# Altium integrated library TI Data Converters Analog to Digital Converter.IntLib: 2198 symbols (part 88 of 164)
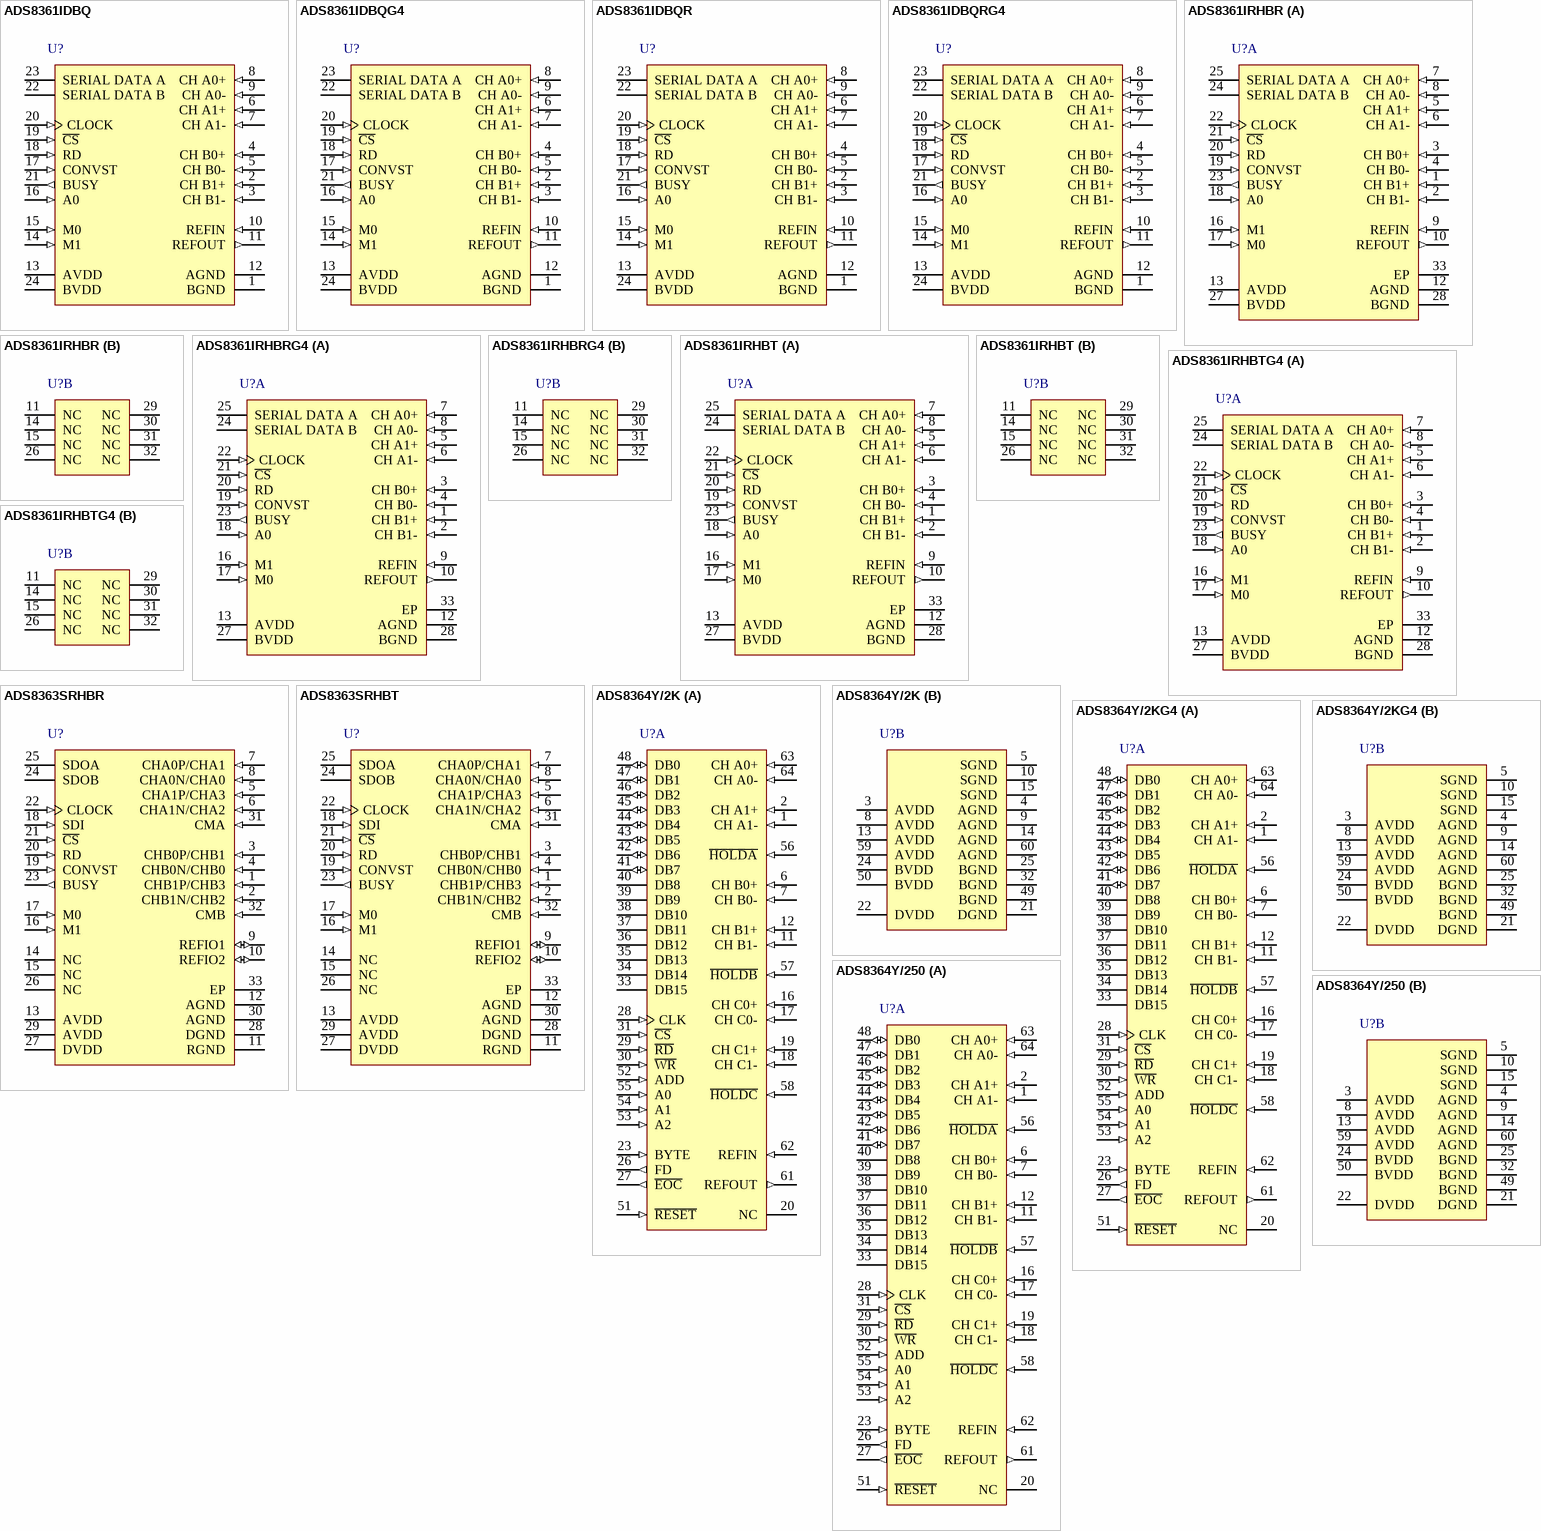
[diagram p213: symbols ADS8361IDBQ to ADS8364Y/250]

## ADS8363SRHBR
designator U?
16-Bit 1 MSPS 4 x 2 / 2 x 2 Simultaneous Sampling SAR ADC, -40 to 125 degC, 32-pin QFN (RHB32), Green (RoHS & no Sb/Br); Manufacturer: Texas Instruments; PartNumber: ADS8363SRHBR; # Input Channels: 4; Analog Voltage AV/DD(Max)(V): 5.5; Analog Voltage AV/DD(Min)(V): 2.7; Digital Supply(Min)(V): 2.3; INL(Max)(+/-LSB): 3; Interface: Serial; Resolution(Bits): 16; Sample Rate (max)(SPS): 1M; SFDR(dB): 100; SINAD(dB): 92; SNR(dB): 93; SubFamily: Precision ADC (<=10MSPS); DatasheetVersion: SBAS523B; PackageVersion: 4204326/D, 06/2011; PackageReference: RHB32-3450X3450TP; PackageDescription: 32-Pin Plastic Flat Pack, Body 5 x 5 mm, Pitch 0.5 mm; Supplier 1: Digi-Key; Supplier Part Number 1: ADS7813U/1KE4-ND; Architecture: SAR; Digital Supply(Max)(V): 5.5; Eco-Plan: Green (RoHS & no Sb/Br); Mounting Technology: Surface Mount; Code_JEDEC: MO-220; ComponentLink1Description: Manufacturer URL; ComponentLink1URL: http://www.ti.com/; ComponentLink2Description: Datasheet; ComponentLink2URL: http://www.ti.com/general/docs/lit/getliterature.tsp?genericPartNumber=ADS8363&fileType=pdf; ComponentLink3Description: Package Specification; ComponentLink3URL: http://www.ti.com/lit/ml/mpqf130c/mpqf130c.pdf
footprint TI-RHB32-3450X3450TP_V (QFN, 32-Leads, Body 5x5mm, Pitch 0.5mm, Thermal Pad 3.45x3.45mm)
pins: 1 CHB1P/CHB3 (in) "Fully-differential noninverting analog input channel B1 or pseudo-differential input B3", 2 CHB1N/CHB2 (in) "Fully-differential inverting analog input channel B1 or pseudo-differential input B2", 3 CHB0P/CHB1 (in) "Fully-differential noninverting analog input channel B0 or pseudo-differential input B1", 4 CHB0N/CHB0 (in) "Fully-differential inverting analog input channel B0 or pseudo-differential input B0", 5 CHA1P/CHA3 (in) "Fully-differential noninverting analog input channel A1 or pseudo-differential input A3", 6 CHA1N/CHA2 (in) "Fully-differential inverting analog input channel A1 or pseudo-differential input A2", 7 CHA0P/CHA1 (in) "Fully-differential nonInverting analog input channel A1 or pseudo-differential input A1", 8 CHA0N/CHA0 (in) "Fully-differential inverting analog input channel A1 or pseudo-differential input A0", 9 REFIO1 (io) "Reference voltage input/output 1. A ceramic capacitor of 22uF connected to RGND is required.", 10 REFIO2 (io) "Reference voltage input/output 2. A ceramic capacitor of 22uF connected to RGND is required.", 11 RGND (power) "Reference ground. Connect to analog ground plane with a dedicated via.", 12 AGND (power) "Analog ground. Connect to analog ground plane.", 13 AVDD (power) "Analog power supply, 2.7V to 5.5V. Decouple to AGND with a 1uF ceramic capacitor.", 14 NC "This pin is not internally connected.", 15 NC "This pin is not internally connected.", 16 M1 (in) "Mode pin 1. Selects the digital output mode (see Table 4).", 17 M0 (in) "Mode pin 0. Selects analog input channel mode (see Table 4).", 18 SDI (in) "Serial data input. This pin is used to set up of the internal registers, and can also be used in ADS8361-compatible manner. The data on SDI are ignored when C\S\is high.", 19 CONVST (in) "Conversion start. The ADC switches from sample into hold mode on the rising edge of CONVST. Thereafter, the conversion starts with the next rising edge of the CLOCK pin.", 20 RD (in) "Read data. Synchronization pulse for the SDOx outputs and SDI input. RD only triggers when C\S\ is low.", 21 ~{CS} (in) "Chip select. When this pin is low, the SDOx, SDI, and RD pins are active; when this pin is high, the SDOx outputs are 3-stated, while the SDI and RD inputs are ignored.", 22 CLOCK (in) "External clock input. The range is 0.5MHz to 20MHz in half-clock mode, or 1MHz to 40MHz in full-clock mode.", 23 BUSY (out) "Converter busy indicator. BUSY goes high when the inputs are in hold mode and returns to low after the conversion is complete.", 24 SDOB (hiz) "Serial data output for converter B. Active only if M1 is low. 3-state when C\S\ is high.", 25 SDOA (hiz) "Serial data output for converter A. 3-state when C\S\ is high.", 26 NC "This pin is not internally connected.", 27 DVDD (power) "Digital supply, 2.3V to 5.5V. Decouple to DGND with a 1uF ceramic capacitor.", 28 DGND (power) "Digital ground. Connect to digital ground plane.", 29 AVDD (power) "Analog power supply, 2.7V to 5.5V. Decouple to AGND with a 1uF ceramic capacitor.", 30 AGND (power) "Analog ground. Connect to analog ground plane.", 31 CMA (in) "Common-mode voltage input for channels Ax (in pseudo-differential mode only).", 32 CMB (in) "Common-mode voltage input for channels Bx (in pseudo-differential mode only).", 33 EP

## ADS8363SRHBT
designator U?
16-Bit 1 MSPS 4 x 2 / 2 x 2 Simultaneous Sampling SAR ADC, -40 to 125 degC, 32-pin QFN (RHB32), Green (RoHS & no Sb/Br); Manufacturer: Texas Instruments; PartNumber: ADS8363SRHBT; # Input Channels: 4; Analog Voltage AV/DD(Max)(V): 5.5; Analog Voltage AV/DD(Min)(V): 2.7; Digital Supply(Min)(V): 2.3; INL(Max)(+/-LSB): 3; Interface: Serial; Resolution(Bits): 16; Sample Rate (max)(SPS): 1M; SFDR(dB): 100; SINAD(dB): 92; SNR(dB): 93; SubFamily: Precision ADC (<=10MSPS); DatasheetVersion: SBAS523B; PackageVersion: 4204326/D, 06/2011; PackageReference: RHB32-3450X3450TP; PackageDescription: 32-Pin Plastic Flat Pack, Body 5 x 5 mm, Pitch 0.5 mm; Supplier 1: Digi-Key; Supplier Part Number 1: ADS7813U/1KG4-ND; Architecture: SAR; Digital Supply(Max)(V): 5.5; Eco-Plan: Green (RoHS & no Sb/Br); Mounting Technology: Surface Mount; Code_JEDEC: MO-220; ComponentLink1Description: Manufacturer URL; ComponentLink1URL: http://www.ti.com/; ComponentLink2Description: Datasheet; ComponentLink2URL: http://www.ti.com/general/docs/lit/getliterature.tsp?genericPartNumber=ADS8363&fileType=pdf; ComponentLink3Description: Package Specification; ComponentLink3URL: http://www.ti.com/lit/ml/mpqf130c/mpqf130c.pdf
footprint TI-RHB32-3450X3450TP_V (QFN, 32-Leads, Body 5x5mm, Pitch 0.5mm, Thermal Pad 3.45x3.45mm)
pins: 1 CHB1P/CHB3 (in) "Fully-differential noninverting analog input channel B1 or pseudo-differential input B3", 2 CHB1N/CHB2 (in) "Fully-differential inverting analog input channel B1 or pseudo-differential input B2", 3 CHB0P/CHB1 (in) "Fully-differential noninverting analog input channel B0 or pseudo-differential input B1", 4 CHB0N/CHB0 (in) "Fully-differential inverting analog input channel B0 or pseudo-differential input B0", 5 CHA1P/CHA3 (in) "Fully-differential noninverting analog input channel A1 or pseudo-differential input A3", 6 CHA1N/CHA2 (in) "Fully-differential inverting analog input channel A1 or pseudo-differential input A2", 7 CHA0P/CHA1 (in) "Fully-differential nonInverting analog input channel A1 or pseudo-differential input A1", 8 CHA0N/CHA0 (in) "Fully-differential inverting analog input channel A1 or pseudo-differential input A0", 9 REFIO1 (io) "Reference voltage input/output 1. A ceramic capacitor of 22uF connected to RGND is required.", 10 REFIO2 (io) "Reference voltage input/output 2. A ceramic capacitor of 22uF connected to RGND is required.", 11 RGND (power) "Reference ground. Connect to analog ground plane with a dedicated via.", 12 AGND (power) "Analog ground. Connect to analog ground plane.", 13 AVDD (power) "Analog power supply, 2.7V to 5.5V. Decouple to AGND with a 1uF ceramic capacitor.", 14 NC "This pin is not internally connected.", 15 NC "This pin is not internally connected.", 16 M1 (in) "Mode pin 1. Selects the digital output mode (see Table 4).", 17 M0 (in) "Mode pin 0. Selects analog input channel mode (see Table 4).", 18 SDI (in) "Serial data input. This pin is used to set up of the internal registers, and can also be used in ADS8361-compatible manner. The data on SDI are ignored when C\S\is high.", 19 CONVST (in) "Conversion start. The ADC switches from sample into hold mode on the rising edge of CONVST. Thereafter, the conversion starts with the next rising edge of the CLOCK pin.", 20 RD (in) "Read data. Synchronization pulse for the SDOx outputs and SDI input. RD only triggers when C\S\ is low.", 21 ~{CS} (in) "Chip select. When this pin is low, the SDOx, SDI, and RD pins are active; when this pin is high, the SDOx outputs are 3-stated, while the SDI and RD inputs are ignored.", 22 CLOCK (in) "External clock input. The range is 0.5MHz to 20MHz in half-clock mode, or 1MHz to 40MHz in full-clock mode.", 23 BUSY (out) "Converter busy indicator. BUSY goes high when the inputs are in hold mode and returns to low after the conversion is complete.", 24 SDOB (hiz) "Serial data output for converter B. Active only if M1 is low. 3-state when C\S\ is high.", 25 SDOA (hiz) "Serial data output for converter A. 3-state when C\S\ is high.", 26 NC "This pin is not internally connected.", 27 DVDD (power) "Digital supply, 2.3V to 5.5V. Decouple to DGND with a 1uF ceramic capacitor.", 28 DGND (power) "Digital ground. Connect to digital ground plane.", 29 AVDD (power) "Analog power supply, 2.7V to 5.5V. Decouple to AGND with a 1uF ceramic capacitor.", 30 AGND (power) "Analog ground. Connect to analog ground plane.", 31 CMA (in) "Common-mode voltage input for channels Ax (in pseudo-differential mode only).", 32 CMB (in) "Common-mode voltage input for channels Bx (in pseudo-differential mode only).", 33 EP

## ADS8364Y/2K
designator U?
16-Bit 250 kSPS ADC, Parallel Out, with 6 x FIFO, 6 Channel, -40 to 85 degC, 64-pin QFP (PAG64), Green (RoHS & no Sb/Br); Manufacturer: Texas Instruments; PartNumber: ADS8364Y/2K; # Input Channels: 6; Analog Voltage AV/DD(Max)(V): 5.25; Analog Voltage AV/DD(Min)(V): 4.75; Architecture: SAR; ENOB(Bits): 13.3; INL(Max)(+/-LSB): 8; Interface: Parallel CMOS; Resolution(Bits): 16; Sample Rate (max)(SPS): 250k; SFDR(dB): 93.5; SINAD(dB): 82.5; SNR(dB): 83.2; SubFamily: Precision ADC (<=10MSPS); DatasheetVersion: SBAS219C; PackageVersion: 4040282/C, 11/1996; PackageReference: PAG64; PackageDescription: 64-Pin Plastic Flat Pack, Body 10 x 10 mm, Pitch 0.50 mm; Supplier 1: Digi-Key; Supplier Part Number 1: ADS7813UB-ND; Digital Supply(Max)(V): 5.25; Digital Supply(Min)(V): 4.75; Eco-Plan: Green (RoHS & no Sb/Br); Mounting Technology: Surface Mount; Code_JEDEC: MS-026; ComponentLink1Description: Manufacturer URL; ComponentLink1URL: http://www.ti.com/; ComponentLink2Description: Datasheet; ComponentLink2URL: http://www.ti.com/general/docs/lit/getliterature.tsp?genericPartNumber=ADS8364&fileType=pdf; ComponentLink3Description: Package Specification; ComponentLink3URL: http://www.ti.com/lit/ml/mtqf006a/mtqf006a.pdf
footprint TI-PAG64_N (QFP, 64-Leads, Body 10x10mm, Pitch 0.5mm, IPC Medium Density)
footprint TI-PAG64_L (QFP, 64-Leads, Body 10x10mm, Pitch 0.5mm, IPC High Density)
footprint TI-PAG64_M (QFP, 64-Leads, Body 10x10mm, Pitch 0.5mm, IPC Low Density)
part A pins: 1 CH A1- (in) "Inverting Input Channel A1", 2 CH A1+ (in) "Noninverting Input channel A1", 6 CH B0+ (in) "Noninverting Input Channel B0", 7 CH B0- (in) "Inverting Input Channel B0", 11 CH B1- (in) "Inverting Input Channel B1", 12 CH B1+ (in) "Noninverting Input Channel B1", 16 CH C0+ (in) "Noninverting Input Channel C0", 17 CH C0- (in) "Inverting Input Channel C0", 18 CH C1- (in) "Inverting Input Channel C1", 19 CH C1+ (in) "Noninverting Input Channel C1", 20 NC "No Connection", 23 BYTE (in) "2 x 8 Output Capability. Active HIGH.", 26 FD (out) "First Data, A0 Data", 27 ~{EOC} (out) "End of Conversion, Active LOW", 28 CLK (in) "An external CMOS compatible clock can be applied to the CLK input to synchronize the conversion process to an external source.", 29 ~{RD} (in) "Read, Active LOW", 30 ~{WR} (in) "Write, Active LOW", 31 ~{CS} (in) "Chip Select, Active LOW", 33 DB15 (hiz) "Data Bit 15-MSB", 34 DB14 (hiz) "Data Bit 14", 35 DB13 (hiz) "Data Bit 13", 36 DB12 (hiz) "Data Bit 12", 37 DB11 (hiz) "Data Bit 11", 38 DB10 (hiz) "Data Bit 10", 39 DB9 (hiz) "Data Bit 9", 40 DB8 (hiz) "Data Bit 8", 41 DB7 (io) "Data Bit 7, Software Input 7", 42 DB6 (io) "Data Bit 6, Software Input 6", 43 DB5 (io) "Data Bit 5, Software Input 5", 44 DB4 (io) "Data Bit 4, Software Input 4", 45 DB3 (io) "Data Bit 3, Software Input 3", 46 DB2 (io) "Data Bit 2, Software Input 2", 47 DB1 (io) "Data Bit 1, Software Input 1", 48 DB0 (io) "Data Bit 0, Software Input 0", 51 ~{RESET} (in) "Global Reset, Active LOW", 52 ADD (in) "Address Mode Select", 53 A2 (in) "Address Line 3", 54 A1 (in) "Address Line 2", 55 A0 (in) "Address Line 1", 56 ~{HOLDA} (in) "Hold Command A", 57 ~{HOLDB} (in) "Hold Command B", 58 ~{HOLDC} (in) "Hold Command C", 61 REFOUT (out) "Reference Output, attach 0.1uF and 10uF capacitors.", 62 REFIN (in) "Reference Input", 63 CH A0+ (in) "Noninverting Input Channel A0", 64 CH A0- (in) "Inverting Input Channel A0"
part B pins: 3 AVDD (power) "Analog Power Supply", 4 AGND (power) "Analog Ground", 5 SGND (power) "Signal Ground", 8 AVDD (power) "Analog Power Supply", 9 AGND (power) "Analog Ground", 10 SGND (power) "Signal Ground", 13 AVDD (power) "Analog Power Supply", 14 AGND (power) "Analog Ground", 15 SGND (power) "Signal Ground", 21 DGND (power) "Digital ground connected to AGND.", 22 DVDD (power) "+5V Power Supply for Digital Logic Connected to AVDD.", 24 BVDD (power) "Power supply for digital interface from 3V to 5V.", 25 BGND (power) "Buffer Digital Ground", 32 BGND (power) "Buffer Digital Ground", 49 BGND (power) "Buffer Digital Ground", 50 BVDD (power) "Power Supply for Digital Interface from 3V to 5V", 59 AVDD (power) "Analog Power Supply", 60 AGND (power) "Analog Ground"

## ADS8364Y/2KG4
designator U?
16-Bit 250 kSPS ADC, Parallel Out, with 6 x FIFO, 6 Channel, -40 to 85 degC, 64-pin QFP (PAG64), Green (RoHS & no Sb/Br); Manufacturer: Texas Instruments; PartNumber: ADS8364Y/2KG4; # Input Channels: 6; Analog Voltage AV/DD(Max)(V): 5.25; Analog Voltage AV/DD(Min)(V): 4.75; Architecture: SAR; ENOB(Bits): 13.3; INL(Max)(+/-LSB): 8; Interface: Parallel CMOS; Resolution(Bits): 16; Sample Rate (max)(SPS): 250k; SFDR(dB): 93.5; SINAD(dB): 82.5; SNR(dB): 83.2; SubFamily: Precision ADC (<=10MSPS); DatasheetVersion: SBAS219C; PackageVersion: 4040282/C, 11/1996; PackageReference: PAG64; PackageDescription: 64-Pin Plastic Flat Pack, Body 10 x 10 mm, Pitch 0.50 mm; Supplier 1: Digi-Key; Supplier Part Number 1: ADS7813UB/1K-ND; Digital Supply(Max)(V): 5.25; Digital Supply(Min)(V): 4.75; Eco-Plan: Green (RoHS & no Sb/Br); Mounting Technology: Surface Mount; Code_JEDEC: MS-026; ComponentLink1Description: Manufacturer URL; ComponentLink1URL: http://www.ti.com/; ComponentLink2Description: Datasheet; ComponentLink2URL: http://www.ti.com/general/docs/lit/getliterature.tsp?genericPartNumber=ADS8364&fileType=pdf; ComponentLink3Description: Package Specification; ComponentLink3URL: http://www.ti.com/lit/ml/mtqf006a/mtqf006a.pdf
footprint TI-PAG64_N (QFP, 64-Leads, Body 10x10mm, Pitch 0.5mm, IPC Medium Density)
footprint TI-PAG64_L (QFP, 64-Leads, Body 10x10mm, Pitch 0.5mm, IPC High Density)
footprint TI-PAG64_M (QFP, 64-Leads, Body 10x10mm, Pitch 0.5mm, IPC Low Density)
part A pins: 1 CH A1- (in) "Inverting Input Channel A1", 2 CH A1+ (in) "Noninverting Input channel A1", 6 CH B0+ (in) "Noninverting Input Channel B0", 7 CH B0- (in) "Inverting Input Channel B0", 11 CH B1- (in) "Inverting Input Channel B1", 12 CH B1+ (in) "Noninverting Input Channel B1", 16 CH C0+ (in) "Noninverting Input Channel C0", 17 CH C0- (in) "Inverting Input Channel C0", 18 CH C1- (in) "Inverting Input Channel C1", 19 CH C1+ (in) "Noninverting Input Channel C1", 20 NC "No Connection", 23 BYTE (in) "2 x 8 Output Capability. Active HIGH.", 26 FD (out) "First Data, A0 Data", 27 ~{EOC} (out) "End of Conversion, Active LOW", 28 CLK (in) "An external CMOS compatible clock can be applied to the CLK input to synchronize the conversion process to an external source.", 29 ~{RD} (in) "Read, Active LOW", 30 ~{WR} (in) "Write, Active LOW", 31 ~{CS} (in) "Chip Select, Active LOW", 33 DB15 (hiz) "Data Bit 15-MSB", 34 DB14 (hiz) "Data Bit 14", 35 DB13 (hiz) "Data Bit 13", 36 DB12 (hiz) "Data Bit 12", 37 DB11 (hiz) "Data Bit 11", 38 DB10 (hiz) "Data Bit 10", 39 DB9 (hiz) "Data Bit 9", 40 DB8 (hiz) "Data Bit 8", 41 DB7 (io) "Data Bit 7, Software Input 7", 42 DB6 (io) "Data Bit 6, Software Input 6", 43 DB5 (io) "Data Bit 5, Software Input 5", 44 DB4 (io) "Data Bit 4, Software Input 4", 45 DB3 (io) "Data Bit 3, Software Input 3", 46 DB2 (io) "Data Bit 2, Software Input 2", 47 DB1 (io) "Data Bit 1, Software Input 1", 48 DB0 (io) "Data Bit 0, Software Input 0", 51 ~{RESET} (in) "Global Reset, Active LOW", 52 ADD (in) "Address Mode Select", 53 A2 (in) "Address Line 3", 54 A1 (in) "Address Line 2", 55 A0 (in) "Address Line 1", 56 ~{HOLDA} (in) "Hold Command A", 57 ~{HOLDB} (in) "Hold Command B", 58 ~{HOLDC} (in) "Hold Command C", 61 REFOUT (out) "Reference Output, attach 0.1uF and 10uF capacitors.", 62 REFIN (in) "Reference Input", 63 CH A0+ (in) "Noninverting Input Channel A0", 64 CH A0- (in) "Inverting Input Channel A0"
part B pins: 3 AVDD (power) "Analog Power Supply", 4 AGND (power) "Analog Ground", 5 SGND (power) "Signal Ground", 8 AVDD (power) "Analog Power Supply", 9 AGND (power) "Analog Ground", 10 SGND (power) "Signal Ground", 13 AVDD (power) "Analog Power Supply", 14 AGND (power) "Analog Ground", 15 SGND (power) "Signal Ground", 21 DGND (power) "Digital ground connected to AGND.", 22 DVDD (power) "+5V Power Supply for Digital Logic Connected to AVDD.", 24 BVDD (power) "Power supply for digital interface from 3V to 5V.", 25 BGND (power) "Buffer Digital Ground", 32 BGND (power) "Buffer Digital Ground", 49 BGND (power) "Buffer Digital Ground", 50 BVDD (power) "Power Supply for Digital Interface from 3V to 5V", 59 AVDD (power) "Analog Power Supply", 60 AGND (power) "Analog Ground"

## ADS8364Y/250
designator U?
16-Bit 250 kSPS ADC, Parallel Out, with 6 x FIFO, 6 Channel, -40 to 85 degC, 64-pin QFP (PAG64), Green (RoHS & no Sb/Br); Manufacturer: Texas Instruments; PartNumber: ADS8364Y/250; # Input Channels: 6; Analog Voltage AV/DD(Max)(V): 5.25; Analog Voltage AV/DD(Min)(V): 4.75; Architecture: SAR; ENOB(Bits): 13.3; INL(Max)(+/-LSB): 8; Interface: Parallel CMOS; Resolution(Bits): 16; Sample Rate (max)(SPS): 250k; SFDR(dB): 93.5; SINAD(dB): 82.5; SNR(dB): 83.2; SubFamily: Precision ADC (<=10MSPS); DatasheetVersion: SBAS219C; PackageVersion: 4040282/C, 11/1996; PackageReference: PAG64; PackageDescription: 64-Pin Plastic Flat Pack, Body 10 x 10 mm, Pitch 0.50 mm; Supplier 1: Digi-Key; Supplier Part Number 1: ADS7813UB/1KG4-ND; Digital Supply(Max)(V): 5.25; Digital Supply(Min)(V): 4.75; Eco-Plan: Green (RoHS & no Sb/Br); Mounting Technology: Surface Mount; Code_JEDEC: MS-026; ComponentLink1Description: Manufacturer URL; ComponentLink1URL: http://www.ti.com/; ComponentLink2Description: Datasheet; ComponentLink2URL: http://www.ti.com/general/docs/lit/getliterature.tsp?genericPartNumber=ADS8364&fileType=pdf; ComponentLink3Description: Package Specification; ComponentLink3URL: http://www.ti.com/lit/ml/mtqf006a/mtqf006a.pdf
footprint TI-PAG64_N (QFP, 64-Leads, Body 10x10mm, Pitch 0.5mm, IPC Medium Density)
footprint TI-PAG64_L (QFP, 64-Leads, Body 10x10mm, Pitch 0.5mm, IPC High Density)
footprint TI-PAG64_M (QFP, 64-Leads, Body 10x10mm, Pitch 0.5mm, IPC Low Density)
part A pins: 1 CH A1- (in) "Inverting Input Channel A1", 2 CH A1+ (in) "Noninverting Input channel A1", 6 CH B0+ (in) "Noninverting Input Channel B0", 7 CH B0- (in) "Inverting Input Channel B0", 11 CH B1- (in) "Inverting Input Channel B1", 12 CH B1+ (in) "Noninverting Input Channel B1", 16 CH C0+ (in) "Noninverting Input Channel C0", 17 CH C0- (in) "Inverting Input Channel C0", 18 CH C1- (in) "Inverting Input Channel C1", 19 CH C1+ (in) "Noninverting Input Channel C1", 20 NC "No Connection", 23 BYTE (in) "2 x 8 Output Capability. Active HIGH.", 26 FD (out) "First Data, A0 Data", 27 ~{EOC} (out) "End of Conversion, Active LOW", 28 CLK (in) "An external CMOS compatible clock can be applied to the CLK input to synchronize the conversion process to an external source.", 29 ~{RD} (in) "Read, Active LOW", 30 ~{WR} (in) "Write, Active LOW", 31 ~{CS} (in) "Chip Select, Active LOW", 33 DB15 (hiz) "Data Bit 15-MSB", 34 DB14 (hiz) "Data Bit 14", 35 DB13 (hiz) "Data Bit 13", 36 DB12 (hiz) "Data Bit 12", 37 DB11 (hiz) "Data Bit 11", 38 DB10 (hiz) "Data Bit 10", 39 DB9 (hiz) "Data Bit 9", 40 DB8 (hiz) "Data Bit 8", 41 DB7 (io) "Data Bit 7, Software Input 7", 42 DB6 (io) "Data Bit 6, Software Input 6", 43 DB5 (io) "Data Bit 5, Software Input 5", 44 DB4 (io) "Data Bit 4, Software Input 4", 45 DB3 (io) "Data Bit 3, Software Input 3", 46 DB2 (io) "Data Bit 2, Software Input 2", 47 DB1 (io) "Data Bit 1, Software Input 1", 48 DB0 (io) "Data Bit 0, Software Input 0", 51 ~{RESET} (in) "Global Reset, Active LOW", 52 ADD (in) "Address Mode Select", 53 A2 (in) "Address Line 3", 54 A1 (in) "Address Line 2", 55 A0 (in) "Address Line 1", 56 ~{HOLDA} (in) "Hold Command A", 57 ~{HOLDB} (in) "Hold Command B", 58 ~{HOLDC} (in) "Hold Command C", 61 REFOUT (out) "Reference Output, attach 0.1uF and 10uF capacitors.", 62 REFIN (in) "Reference Input", 63 CH A0+ (in) "Noninverting Input Channel A0", 64 CH A0- (in) "Inverting Input Channel A0"
part B pins: 3 AVDD (power) "Analog Power Supply", 4 AGND (power) "Analog Ground", 5 SGND (power) "Signal Ground", 8 AVDD (power) "Analog Power Supply", 9 AGND (power) "Analog Ground", 10 SGND (power) "Signal Ground", 13 AVDD (power) "Analog Power Supply", 14 AGND (power) "Analog Ground", 15 SGND (power) "Signal Ground", 21 DGND (power) "Digital ground connected to AGND.", 22 DVDD (power) "+5V Power Supply for Digital Logic Connected to AVDD.", 24 BVDD (power) "Power supply for digital interface from 3V to 5V.", 25 BGND (power) "Buffer Digital Ground", 32 BGND (power) "Buffer Digital Ground", 49 BGND (power) "Buffer Digital Ground", 50 BVDD (power) "Power Supply for Digital Interface from 3V to 5V", 59 AVDD (power) "Analog Power Supply", 60 AGND (power) "Analog Ground"

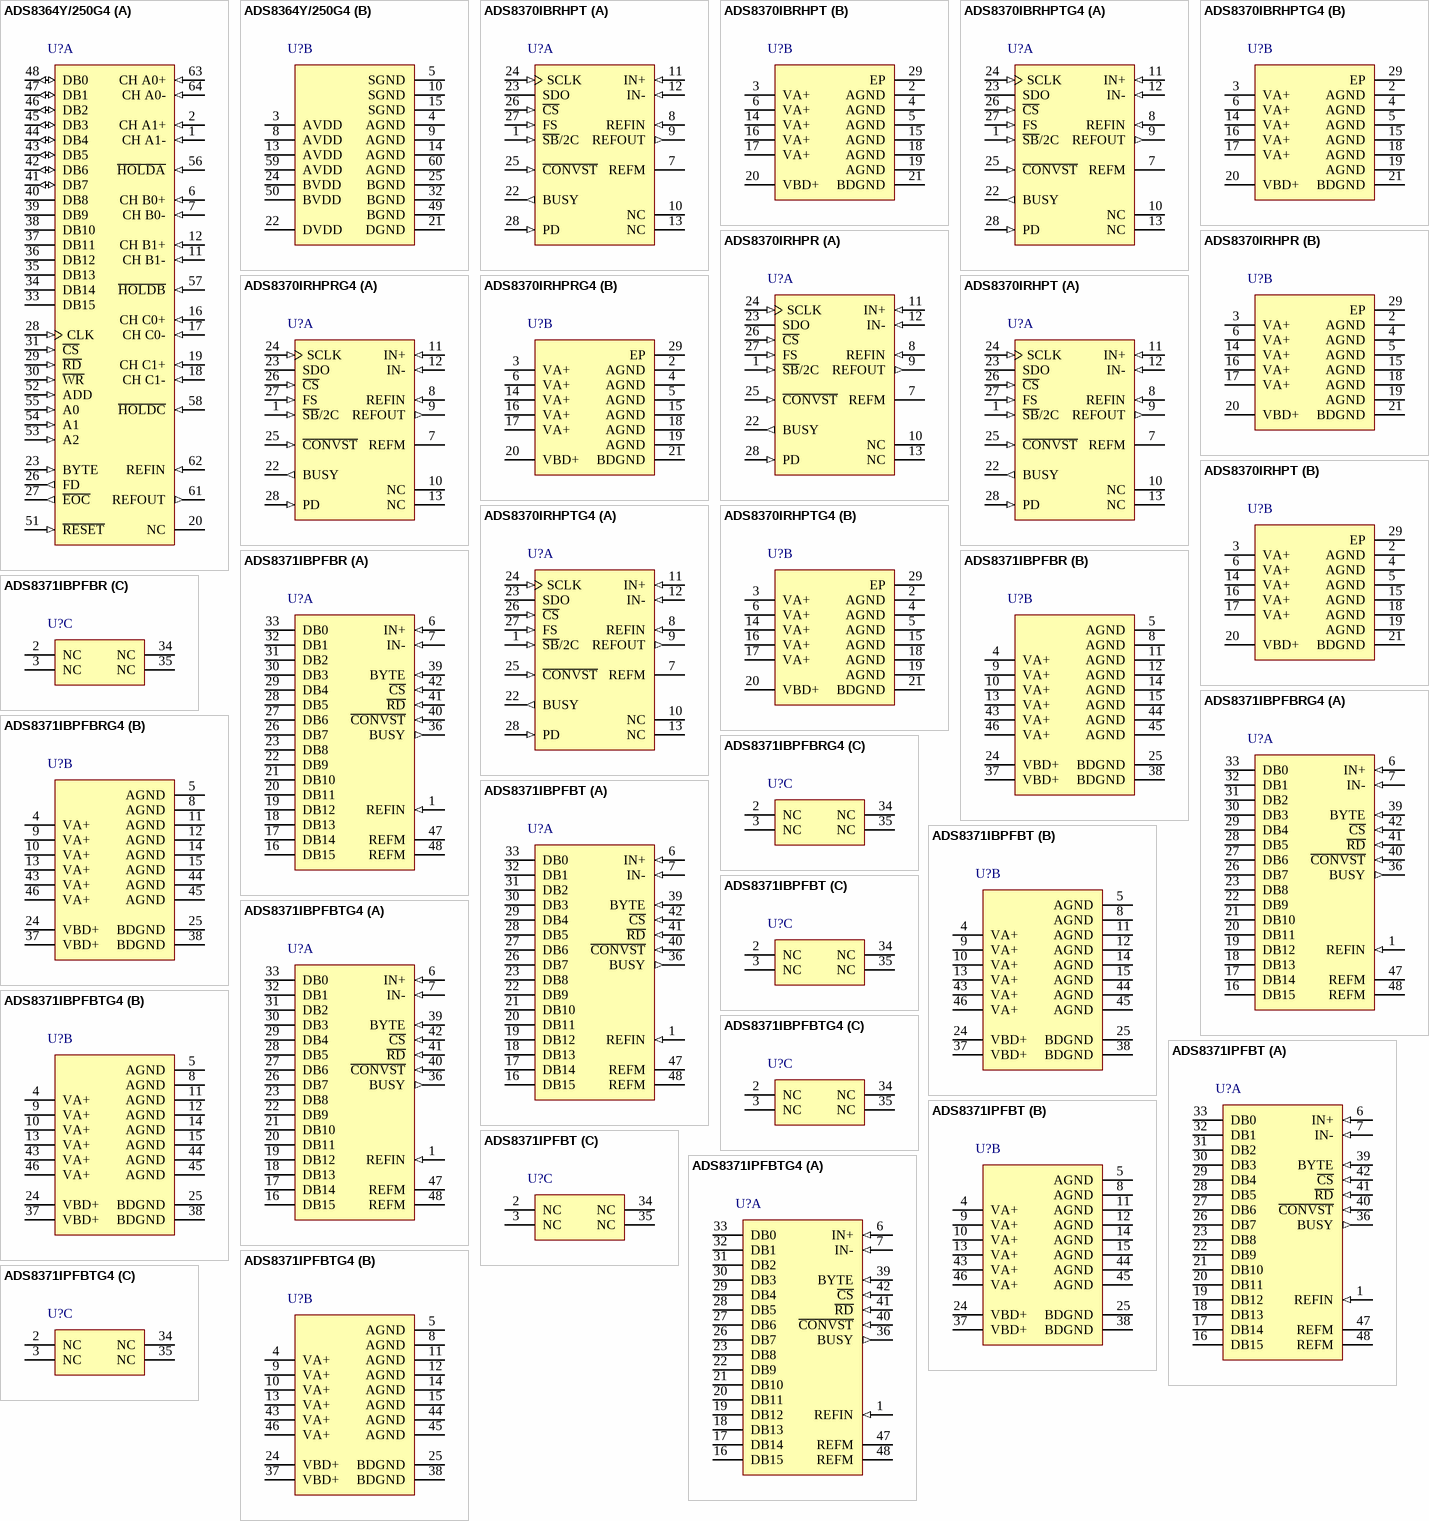
[diagram p78: symbols ADS8364Y/250G4 to ADS8371IPFBTG4]

## ADS8364Y/250G4
designator U?
16-Bit 250 kSPS ADC, Parallel Out, with 6 x FIFO, 6 Channel, -40 to 85 degC, 64-pin QFP (PAG64), Green (RoHS & no Sb/Br); Manufacturer: Texas Instruments; PartNumber: ADS8364Y/250G4; # Input Channels: 6; Analog Voltage AV/DD(Max)(V): 5.25; Analog Voltage AV/DD(Min)(V): 4.75; Architecture: SAR; ENOB(Bits): 13.3; INL(Max)(+/-LSB): 8; Interface: Parallel CMOS; Resolution(Bits): 16; Sample Rate (max)(SPS): 250k; SFDR(dB): 93.5; SINAD(dB): 82.5; SNR(dB): 83.2; SubFamily: Precision ADC (<=10MSPS); DatasheetVersion: SBAS219C; PackageVersion: 4040282/C, 11/1996; PackageReference: PAG64; PackageDescription: 64-Pin Plastic Flat Pack, Body 10 x 10 mm, Pitch 0.50 mm; Supplier 1: Digi-Key; Supplier Part Number 1: ADS7813UBE4-ND; Digital Supply(Max)(V): 5.25; Digital Supply(Min)(V): 4.75; Eco-Plan: Green (RoHS & no Sb/Br); Mounting Technology: Surface Mount; Code_JEDEC: MS-026; ComponentLink1Description: Manufacturer URL; ComponentLink1URL: http://www.ti.com/; ComponentLink2Description: Datasheet; ComponentLink2URL: http://www.ti.com/general/docs/lit/getliterature.tsp?genericPartNumber=ADS8364&fileType=pdf; ComponentLink3Description: Package Specification; ComponentLink3URL: http://www.ti.com/lit/ml/mtqf006a/mtqf006a.pdf
footprint TI-PAG64_N (QFP, 64-Leads, Body 10x10mm, Pitch 0.5mm, IPC Medium Density)
footprint TI-PAG64_L (QFP, 64-Leads, Body 10x10mm, Pitch 0.5mm, IPC High Density)
footprint TI-PAG64_M (QFP, 64-Leads, Body 10x10mm, Pitch 0.5mm, IPC Low Density)
part A pins: 1 CH A1- (in) "Inverting Input Channel A1", 2 CH A1+ (in) "Noninverting Input channel A1", 6 CH B0+ (in) "Noninverting Input Channel B0", 7 CH B0- (in) "Inverting Input Channel B0", 11 CH B1- (in) "Inverting Input Channel B1", 12 CH B1+ (in) "Noninverting Input Channel B1", 16 CH C0+ (in) "Noninverting Input Channel C0", 17 CH C0- (in) "Inverting Input Channel C0", 18 CH C1- (in) "Inverting Input Channel C1", 19 CH C1+ (in) "Noninverting Input Channel C1", 20 NC "No Connection", 23 BYTE (in) "2 x 8 Output Capability. Active HIGH.", 26 FD (out) "First Data, A0 Data", 27 ~{EOC} (out) "End of Conversion, Active LOW", 28 CLK (in) "An external CMOS compatible clock can be applied to the CLK input to synchronize the conversion process to an external source.", 29 ~{RD} (in) "Read, Active LOW", 30 ~{WR} (in) "Write, Active LOW", 31 ~{CS} (in) "Chip Select, Active LOW", 33 DB15 (hiz) "Data Bit 15-MSB", 34 DB14 (hiz) "Data Bit 14", 35 DB13 (hiz) "Data Bit 13", 36 DB12 (hiz) "Data Bit 12", 37 DB11 (hiz) "Data Bit 11", 38 DB10 (hiz) "Data Bit 10", 39 DB9 (hiz) "Data Bit 9", 40 DB8 (hiz) "Data Bit 8", 41 DB7 (io) "Data Bit 7, Software Input 7", 42 DB6 (io) "Data Bit 6, Software Input 6", 43 DB5 (io) "Data Bit 5, Software Input 5", 44 DB4 (io) "Data Bit 4, Software Input 4", 45 DB3 (io) "Data Bit 3, Software Input 3", 46 DB2 (io) "Data Bit 2, Software Input 2", 47 DB1 (io) "Data Bit 1, Software Input 1", 48 DB0 (io) "Data Bit 0, Software Input 0", 51 ~{RESET} (in) "Global Reset, Active LOW", 52 ADD (in) "Address Mode Select", 53 A2 (in) "Address Line 3", 54 A1 (in) "Address Line 2", 55 A0 (in) "Address Line 1", 56 ~{HOLDA} (in) "Hold Command A", 57 ~{HOLDB} (in) "Hold Command B", 58 ~{HOLDC} (in) "Hold Command C", 61 REFOUT (out) "Reference Output, attach 0.1uF and 10uF capacitors.", 62 REFIN (in) "Reference Input", 63 CH A0+ (in) "Noninverting Input Channel A0", 64 CH A0- (in) "Inverting Input Channel A0"
part B pins: 3 AVDD (power) "Analog Power Supply", 4 AGND (power) "Analog Ground", 5 SGND (power) "Signal Ground", 8 AVDD (power) "Analog Power Supply", 9 AGND (power) "Analog Ground", 10 SGND (power) "Signal Ground", 13 AVDD (power) "Analog Power Supply", 14 AGND (power) "Analog Ground", 15 SGND (power) "Signal Ground", 21 DGND (power) "Digital ground connected to AGND.", 22 DVDD (power) "+5V Power Supply for Digital Logic Connected to AVDD.", 24 BVDD (power) "Power supply for digital interface from 3V to 5V.", 25 BGND (power) "Buffer Digital Ground", 32 BGND (power) "Buffer Digital Ground", 49 BGND (power) "Buffer Digital Ground", 50 BVDD (power) "Power Supply for Digital Interface from 3V to 5V", 59 AVDD (power) "Analog Power Supply", 60 AGND (power) "Analog Ground"

## ADS8370IBRHPT
designator U?
16-Bit 600 kSPS Serial ADC with Reference and Unipolar Pseudo Differential Input, -40 to 85 degC, 28-pin QFN (RHP28), Green (RoHS & no Sb/Br); Manufacturer: Texas Instruments; PartNumber: ADS8370IBRHPT; # Input Channels: 1; Analog Voltage AV/DD(Max)(V): 5.25; Analog Voltage AV/DD(Min)(V): 4.75; Architecture: SAR; Digital Supply(Min)(V): 2.7; INL(Max)(+/-LSB): 1.25; Resolution(Bits): 16; Sample Rate (max)(SPS): 600k; SFDR(dB): 119; SINAD(dB): 89.5; SubFamily: Precision ADC (<=10MSPS); DatasheetVersion: SLAS450; PackageVersion: 4205387/C, 01/2011; PackageReference: RHP28-4450X4450TP; PackageDescription: 28-Lead, Plastic Flat Pack, Body Size 6 x 6 mm, Pitch 0.65 mm; Supplier 1: Digi-Key; Supplier Part Number 1: ADS7813UBG4-ND; Digital Supply(Max)(V): 5.25; Eco-Plan: Green (RoHS & no Sb/Br); Interface: Serial; SNR(dB): 89.5; Mounting Technology: Surface Mount; ComponentLink1Description: Manufacturer URL; ComponentLink1URL: http://www.ti.com/; ComponentLink2Description: Datasheet; ComponentLink2URL: http://www.ti.com/general/docs/lit/getliterature.tsp?genericPartNumber=ADS8370&fileType=pdf; ComponentLink3Description: Package Specification; ComponentLink3URL: http://www.ti.com/litv/pdf/mpqf154b
footprint TI-RHP28-4450X4450TP_V (QFN, 28-Leads, Body 6x6mm, Pitch 0.65mm, Thermal Pad 4.45x4.45mm)
part A pins: 1 ~{SB}/2C (in), 7 REFM (power) "Reference ground. To be connected to analog ground plane.", 8 REFIN (in) "Reference (positive) input. REFIN must be decoupled with REFM pin using 0.1-uF bypass capacitor and 1-uF storage capacitor.", 9 REFOUT (out) "Internal reference output. Shorted to REFIN pin only when internal reference is used.", 10 NC "No connection", 11 IN+ (in) "Noninverting analog input channel", 12 IN- (in) "Inverting analog input channel", 13 NC "No connection", 22 BUSY (out) "Status output. This pin is high when conversion is in progress.", 23 SDO (hiz) "Serial data out. All bits except MSB are shifted out at the rising edge of SCLK.", 24 SCLK (in) "Serial clock. Data is shifted onto SDO with the rising edge of this clock. This signal is qualified with CS internally.", 25 ~{CONVST} (in) "Convert start. This signal is qualified with C\S\ internally.", 26 ~{CS} (in) "Chip select", 27 FS (in) "Frame sync. This signal is qualified with C\S\ internally.", 28 PD (in) "Power down. Device resets and powers down when this signal is high."
part B pins: 2 AGND (power) "Analog ground pins. AGND must be shorted to analog ground plane below the device.", 3 VA+ (power) "Analog power supplies", 4 AGND (power) "Analog ground pins. AGND must be shorted to analog ground plane below the device.", 5 AGND (power) "Analog ground pins. AGND must be shorted to analog ground plane below the device.", 6 VA+ (power) "Analog power supplies", 14 VA+ (power) "Analog power supplies", 15 AGND (power) "Analog ground pins. AGND must be shorted to analog ground plane below the device.", 16 VA+ (power) "Analog power supplies", 17 VA+ (power) "Analog power supplies", 18 AGND (power) "Analog ground pins. AGND must be shorted to analog ground plane below the device.", 19 AGND (power) "Analog ground pins. AGND must be shorted to analog ground plane below the device.", 20 VBD+ (power) "Digital power supply for all digital inputs and outputs.", 21 BDGND (power) "Digital ground for all digital inputs and outputs. BDGND must be shorted to the analog ground plane below the device.", 29 EP

## ADS8370IBRHPTG4
designator U?
16-Bit 600 kSPS Serial ADC with Reference and Unipolar Pseudo Differential Input, -40 to 85 degC, 28-pin QFN (RHP28), Green (RoHS & no Sb/Br); Manufacturer: Texas Instruments; PartNumber: ADS8370IBRHPTG4; # Input Channels: 1; Analog Voltage AV/DD(Max)(V): 5.25; Analog Voltage AV/DD(Min)(V): 4.75; Architecture: SAR; Digital Supply(Min)(V): 2.7; INL(Max)(+/-LSB): 1.25; Resolution(Bits): 16; Sample Rate (max)(SPS): 600k; SFDR(dB): 119; SINAD(dB): 89.5; SubFamily: Precision ADC (<=10MSPS); DatasheetVersion: SLAS450; PackageVersion: 4205387/C, 01/2011; PackageReference: RHP28-4450X4450TP; PackageDescription: 28-Lead, Plastic Flat Pack, Body Size 6 x 6 mm, Pitch 0.65 mm; Supplier 1: Digi-Key; Supplier Part Number 1: ADS7813UE4-ND; Digital Supply(Max)(V): 5.25; Eco-Plan: Green (RoHS & no Sb/Br); Interface: Serial; SNR(dB): 89.5; Mounting Technology: Surface Mount; ComponentLink1Description: Manufacturer URL; ComponentLink1URL: http://www.ti.com/; ComponentLink2Description: Datasheet; ComponentLink2URL: http://www.ti.com/general/docs/lit/getliterature.tsp?genericPartNumber=ADS8370&fileType=pdf; ComponentLink3Description: Package Specification; ComponentLink3URL: http://www.ti.com/litv/pdf/mpqf154b
footprint TI-RHP28-4450X4450TP_V (QFN, 28-Leads, Body 6x6mm, Pitch 0.65mm, Thermal Pad 4.45x4.45mm)
part A pins: 1 ~{SB}/2C (in), 7 REFM (power) "Reference ground. To be connected to analog ground plane.", 8 REFIN (in) "Reference (positive) input. REFIN must be decoupled with REFM pin using 0.1-uF bypass capacitor and 1-uF storage capacitor.", 9 REFOUT (out) "Internal reference output. Shorted to REFIN pin only when internal reference is used.", 10 NC "No connection", 11 IN+ (in) "Noninverting analog input channel", 12 IN- (in) "Inverting analog input channel", 13 NC "No connection", 22 BUSY (out) "Status output. This pin is high when conversion is in progress.", 23 SDO (hiz) "Serial data out. All bits except MSB are shifted out at the rising edge of SCLK.", 24 SCLK (in) "Serial clock. Data is shifted onto SDO with the rising edge of this clock. This signal is qualified with CS internally.", 25 ~{CONVST} (in) "Convert start. This signal is qualified with C\S\ internally.", 26 ~{CS} (in) "Chip select", 27 FS (in) "Frame sync. This signal is qualified with C\S\ internally.", 28 PD (in) "Power down. Device resets and powers down when this signal is high."
part B pins: 2 AGND (power) "Analog ground pins. AGND must be shorted to analog ground plane below the device.", 3 VA+ (power) "Analog power supplies", 4 AGND (power) "Analog ground pins. AGND must be shorted to analog ground plane below the device.", 5 AGND (power) "Analog ground pins. AGND must be shorted to analog ground plane below the device.", 6 VA+ (power) "Analog power supplies", 14 VA+ (power) "Analog power supplies", 15 AGND (power) "Analog ground pins. AGND must be shorted to analog ground plane below the device.", 16 VA+ (power) "Analog power supplies", 17 VA+ (power) "Analog power supplies", 18 AGND (power) "Analog ground pins. AGND must be shorted to analog ground plane below the device.", 19 AGND (power) "Analog ground pins. AGND must be shorted to analog ground plane below the device.", 20 VBD+ (power) "Digital power supply for all digital inputs and outputs.", 21 BDGND (power) "Digital ground for all digital inputs and outputs. BDGND must be shorted to the analog ground plane below the device.", 29 EP

## ADS8370IRHPR
designator U?
16-Bit 600 kSPS Serial ADC with Reference and Unipolar Pseudo Differential Input, -40 to 85 degC, 28-pin QFN (RHP28), Green (RoHS & no Sb/Br); Manufacturer: Texas Instruments; PartNumber: ADS8370IRHPR; # Input Channels: 1; Analog Voltage AV/DD(Max)(V): 5.25; Analog Voltage AV/DD(Min)(V): 4.75; Architecture: SAR; Digital Supply(Min)(V): 2.7; INL(Max)(+/-LSB): 2; Resolution(Bits): 16; Sample Rate (max)(SPS): 600k; SFDR(dB): 119; SINAD(dB): 89.5; SubFamily: Precision ADC (<=10MSPS); DatasheetVersion: SLAS450; PackageVersion: 4205387/C, 01/2011; PackageReference: RHP28-4450X4450TP; PackageDescription: 28-Lead, Plastic Flat Pack, Body Size 6 x 6 mm, Pitch 0.65 mm; Supplier 1: Digi-Key; Supplier Part Number 1: ADS7813UG4-ND; Digital Supply(Max)(V): 5.25; Eco-Plan: Green (RoHS & no Sb/Br); Interface: Serial; SNR(dB): 89.5; Mounting Technology: Surface Mount; ComponentLink1Description: Manufacturer URL; ComponentLink1URL: http://www.ti.com/; ComponentLink2Description: Datasheet; ComponentLink2URL: http://www.ti.com/general/docs/lit/getliterature.tsp?genericPartNumber=ADS8370&fileType=pdf; ComponentLink3Description: Package Specification; ComponentLink3URL: http://www.ti.com/litv/pdf/mpqf154b
footprint TI-RHP28-4450X4450TP_V (QFN, 28-Leads, Body 6x6mm, Pitch 0.65mm, Thermal Pad 4.45x4.45mm)
part A pins: 1 ~{SB}/2C (in), 7 REFM (power) "Reference ground. To be connected to analog ground plane.", 8 REFIN (in) "Reference (positive) input. REFIN must be decoupled with REFM pin using 0.1-uF bypass capacitor and 1-uF storage capacitor.", 9 REFOUT (out) "Internal reference output. Shorted to REFIN pin only when internal reference is used.", 10 NC "No connection", 11 IN+ (in) "Noninverting analog input channel", 12 IN- (in) "Inverting analog input channel", 13 NC "No connection", 22 BUSY (out) "Status output. This pin is high when conversion is in progress.", 23 SDO (hiz) "Serial data out. All bits except MSB are shifted out at the rising edge of SCLK.", 24 SCLK (in) "Serial clock. Data is shifted onto SDO with the rising edge of this clock. This signal is qualified with CS internally.", 25 ~{CONVST} (in) "Convert start. This signal is qualified with C\S\ internally.", 26 ~{CS} (in) "Chip select", 27 FS (in) "Frame sync. This signal is qualified with C\S\ internally.", 28 PD (in) "Power down. Device resets and powers down when this signal is high."
part B pins: 2 AGND (power) "Analog ground pins. AGND must be shorted to analog ground plane below the device.", 3 VA+ (power) "Analog power supplies", 4 AGND (power) "Analog ground pins. AGND must be shorted to analog ground plane below the device.", 5 AGND (power) "Analog ground pins. AGND must be shorted to analog ground plane below the device.", 6 VA+ (power) "Analog power supplies", 14 VA+ (power) "Analog power supplies", 15 AGND (power) "Analog ground pins. AGND must be shorted to analog ground plane below the device.", 16 VA+ (power) "Analog power supplies", 17 VA+ (power) "Analog power supplies", 18 AGND (power) "Analog ground pins. AGND must be shorted to analog ground plane below the device.", 19 AGND (power) "Analog ground pins. AGND must be shorted to analog ground plane below the device.", 20 VBD+ (power) "Digital power supply for all digital inputs and outputs.", 21 BDGND (power) "Digital ground for all digital inputs and outputs. BDGND must be shorted to the analog ground plane below the device.", 29 EP

## ADS8370IRHPRG4
designator U?
16-Bit 600 kSPS Serial ADC with Reference and Unipolar Pseudo Differential Input, -40 to 85 degC, 28-pin QFN (RHP28), Green (RoHS & no Sb/Br); Manufacturer: Texas Instruments; PartNumber: ADS8370IRHPRG4; # Input Channels: 1; Analog Voltage AV/DD(Max)(V): 5.25; Analog Voltage AV/DD(Min)(V): 4.75; Architecture: SAR; Digital Supply(Min)(V): 2.7; INL(Max)(+/-LSB): 2; Resolution(Bits): 16; Sample Rate (max)(SPS): 600k; SFDR(dB): 119; SINAD(dB): 89.5; SubFamily: Precision ADC (<=10MSPS); DatasheetVersion: SLAS450; PackageVersion: 4205387/C, 01/2011; PackageReference: RHP28-4450X4450TP; PackageDescription: 28-Lead, Plastic Flat Pack, Body Size 6 x 6 mm, Pitch 0.65 mm; Supplier 1: Digi-Key; Supplier Part Number 1: ADS7812P-ND; Digital Supply(Max)(V): 5.25; Eco-Plan: Green (RoHS & no Sb/Br); Interface: Serial; SNR(dB): 89.5; Mounting Technology: Surface Mount; ComponentLink1Description: Manufacturer URL; ComponentLink1URL: http://www.ti.com/; ComponentLink2Description: Datasheet; ComponentLink2URL: http://www.ti.com/general/docs/lit/getliterature.tsp?genericPartNumber=ADS8370&fileType=pdf; ComponentLink3Description: Package Specification; ComponentLink3URL: http://www.ti.com/litv/pdf/mpqf154b
footprint TI-RHP28-4450X4450TP_V (QFN, 28-Leads, Body 6x6mm, Pitch 0.65mm, Thermal Pad 4.45x4.45mm)
part A pins: 1 ~{SB}/2C (in), 7 REFM (power) "Reference ground. To be connected to analog ground plane.", 8 REFIN (in) "Reference (positive) input. REFIN must be decoupled with REFM pin using 0.1-uF bypass capacitor and 1-uF storage capacitor.", 9 REFOUT (out) "Internal reference output. Shorted to REFIN pin only when internal reference is used.", 10 NC "No connection", 11 IN+ (in) "Noninverting analog input channel", 12 IN- (in) "Inverting analog input channel", 13 NC "No connection", 22 BUSY (out) "Status output. This pin is high when conversion is in progress.", 23 SDO (hiz) "Serial data out. All bits except MSB are shifted out at the rising edge of SCLK.", 24 SCLK (in) "Serial clock. Data is shifted onto SDO with the rising edge of this clock. This signal is qualified with CS internally.", 25 ~{CONVST} (in) "Convert start. This signal is qualified with C\S\ internally.", 26 ~{CS} (in) "Chip select", 27 FS (in) "Frame sync. This signal is qualified with C\S\ internally.", 28 PD (in) "Power down. Device resets and powers down when this signal is high."
part B pins: 2 AGND (power) "Analog ground pins. AGND must be shorted to analog ground plane below the device.", 3 VA+ (power) "Analog power supplies", 4 AGND (power) "Analog ground pins. AGND must be shorted to analog ground plane below the device.", 5 AGND (power) "Analog ground pins. AGND must be shorted to analog ground plane below the device.", 6 VA+ (power) "Analog power supplies", 14 VA+ (power) "Analog power supplies", 15 AGND (power) "Analog ground pins. AGND must be shorted to analog ground plane below the device.", 16 VA+ (power) "Analog power supplies", 17 VA+ (power) "Analog power supplies", 18 AGND (power) "Analog ground pins. AGND must be shorted to analog ground plane below the device.", 19 AGND (power) "Analog ground pins. AGND must be shorted to analog ground plane below the device.", 20 VBD+ (power) "Digital power supply for all digital inputs and outputs.", 21 BDGND (power) "Digital ground for all digital inputs and outputs. BDGND must be shorted to the analog ground plane below the device.", 29 EP

## ADS8370IRHPT
designator U?
16-Bit 600 kSPS Serial ADC with Reference and Unipolar Pseudo Differential Input, -40 to 85 degC, 28-pin QFN (RHP28), Green (RoHS & no Sb/Br); Manufacturer: Texas Instruments; PartNumber: ADS8370IRHPT; # Input Channels: 1; Analog Voltage AV/DD(Max)(V): 5.25; Analog Voltage AV/DD(Min)(V): 4.75; Architecture: SAR; Digital Supply(Min)(V): 2.7; INL(Max)(+/-LSB): 2; Resolution(Bits): 16; Sample Rate (max)(SPS): 600k; SFDR(dB): 119; SINAD(dB): 89.5; SubFamily: Precision ADC (<=10MSPS); DatasheetVersion: SLAS450; PackageVersion: 4205387/C, 01/2011; PackageReference: RHP28-4450X4450TP; PackageDescription: 28-Lead, Plastic Flat Pack, Body Size 6 x 6 mm, Pitch 0.65 mm; Supplier 1: Digi-Key; Supplier Part Number 1: ADS7812PB-ND; Digital Supply(Max)(V): 5.25; Eco-Plan: Green (RoHS & no Sb/Br); Interface: Serial; SNR(dB): 89.5; Mounting Technology: Surface Mount; ComponentLink1Description: Manufacturer URL; ComponentLink1URL: http://www.ti.com/; ComponentLink2Description: Datasheet; ComponentLink2URL: http://www.ti.com/general/docs/lit/getliterature.tsp?genericPartNumber=ADS8370&fileType=pdf; ComponentLink3Description: Package Specification; ComponentLink3URL: http://www.ti.com/litv/pdf/mpqf154b
footprint TI-RHP28-4450X4450TP_V (QFN, 28-Leads, Body 6x6mm, Pitch 0.65mm, Thermal Pad 4.45x4.45mm)
part A pins: 1 ~{SB}/2C (in), 7 REFM (power) "Reference ground. To be connected to analog ground plane.", 8 REFIN (in) "Reference (positive) input. REFIN must be decoupled with REFM pin using 0.1-uF bypass capacitor and 1-uF storage capacitor.", 9 REFOUT (out) "Internal reference output. Shorted to REFIN pin only when internal reference is used.", 10 NC "No connection", 11 IN+ (in) "Noninverting analog input channel", 12 IN- (in) "Inverting analog input channel", 13 NC "No connection", 22 BUSY (out) "Status output. This pin is high when conversion is in progress.", 23 SDO (hiz) "Serial data out. All bits except MSB are shifted out at the rising edge of SCLK.", 24 SCLK (in) "Serial clock. Data is shifted onto SDO with the rising edge of this clock. This signal is qualified with CS internally.", 25 ~{CONVST} (in) "Convert start. This signal is qualified with C\S\ internally.", 26 ~{CS} (in) "Chip select", 27 FS (in) "Frame sync. This signal is qualified with C\S\ internally.", 28 PD (in) "Power down. Device resets and powers down when this signal is high."
part B pins: 2 AGND (power) "Analog ground pins. AGND must be shorted to analog ground plane below the device.", 3 VA+ (power) "Analog power supplies", 4 AGND (power) "Analog ground pins. AGND must be shorted to analog ground plane below the device.", 5 AGND (power) "Analog ground pins. AGND must be shorted to analog ground plane below the device.", 6 VA+ (power) "Analog power supplies", 14 VA+ (power) "Analog power supplies", 15 AGND (power) "Analog ground pins. AGND must be shorted to analog ground plane below the device.", 16 VA+ (power) "Analog power supplies", 17 VA+ (power) "Analog power supplies", 18 AGND (power) "Analog ground pins. AGND must be shorted to analog ground plane below the device.", 19 AGND (power) "Analog ground pins. AGND must be shorted to analog ground plane below the device.", 20 VBD+ (power) "Digital power supply for all digital inputs and outputs.", 21 BDGND (power) "Digital ground for all digital inputs and outputs. BDGND must be shorted to the analog ground plane below the device.", 29 EP

## ADS8370IRHPTG4
designator U?
16-Bit 600 kSPS Serial ADC with Reference and Unipolar Pseudo Differential Input, -40 to 85 degC, 28-pin QFN (RHP28), Green (RoHS & no Sb/Br); Manufacturer: Texas Instruments; PartNumber: ADS8370IRHPTG4; # Input Channels: 1; Analog Voltage AV/DD(Max)(V): 5.25; Analog Voltage AV/DD(Min)(V): 4.75; Architecture: SAR; Digital Supply(Min)(V): 2.7; INL(Max)(+/-LSB): 2; Resolution(Bits): 16; Sample Rate (max)(SPS): 600k; SFDR(dB): 119; SINAD(dB): 89.5; SubFamily: Precision ADC (<=10MSPS); DatasheetVersion: SLAS450; PackageVersion: 4205387/C, 01/2011; PackageReference: RHP28-4450X4450TP; PackageDescription: 28-Lead, Plastic Flat Pack, Body Size 6 x 6 mm, Pitch 0.65 mm; Supplier 1: Digi-Key; Supplier Part Number 1: ADS7812PBG4-ND; Digital Supply(Max)(V): 5.25; Eco-Plan: Green (RoHS & no Sb/Br); Interface: Serial; SNR(dB): 89.5; Mounting Technology: Surface Mount; ComponentLink1Description: Manufacturer URL; ComponentLink1URL: http://www.ti.com/; ComponentLink2Description: Datasheet; ComponentLink2URL: http://www.ti.com/general/docs/lit/getliterature.tsp?genericPartNumber=ADS8370&fileType=pdf; ComponentLink3Description: Package Specification; ComponentLink3URL: http://www.ti.com/litv/pdf/mpqf154b
footprint TI-RHP28-4450X4450TP_V (QFN, 28-Leads, Body 6x6mm, Pitch 0.65mm, Thermal Pad 4.45x4.45mm)
part A pins: 1 ~{SB}/2C (in), 7 REFM (power) "Reference ground. To be connected to analog ground plane.", 8 REFIN (in) "Reference (positive) input. REFIN must be decoupled with REFM pin using 0.1-uF bypass capacitor and 1-uF storage capacitor.", 9 REFOUT (out) "Internal reference output. Shorted to REFIN pin only when internal reference is used.", 10 NC "No connection", 11 IN+ (in) "Noninverting analog input channel", 12 IN- (in) "Inverting analog input channel", 13 NC "No connection", 22 BUSY (out) "Status output. This pin is high when conversion is in progress.", 23 SDO (hiz) "Serial data out. All bits except MSB are shifted out at the rising edge of SCLK.", 24 SCLK (in) "Serial clock. Data is shifted onto SDO with the rising edge of this clock. This signal is qualified with CS internally.", 25 ~{CONVST} (in) "Convert start. This signal is qualified with C\S\ internally.", 26 ~{CS} (in) "Chip select", 27 FS (in) "Frame sync. This signal is qualified with C\S\ internally.", 28 PD (in) "Power down. Device resets and powers down when this signal is high."
part B pins: 2 AGND (power) "Analog ground pins. AGND must be shorted to analog ground plane below the device.", 3 VA+ (power) "Analog power supplies", 4 AGND (power) "Analog ground pins. AGND must be shorted to analog ground plane below the device.", 5 AGND (power) "Analog ground pins. AGND must be shorted to analog ground plane below the device.", 6 VA+ (power) "Analog power supplies", 14 VA+ (power) "Analog power supplies", 15 AGND (power) "Analog ground pins. AGND must be shorted to analog ground plane below the device.", 16 VA+ (power) "Analog power supplies", 17 VA+ (power) "Analog power supplies", 18 AGND (power) "Analog ground pins. AGND must be shorted to analog ground plane below the device.", 19 AGND (power) "Analog ground pins. AGND must be shorted to analog ground plane below the device.", 20 VBD+ (power) "Digital power supply for all digital inputs and outputs.", 21 BDGND (power) "Digital ground for all digital inputs and outputs. BDGND must be shorted to the analog ground plane below the device.", 29 EP